# Altium schematic symbol library Relays.SchLib: 16 symbols
Pins are listed as number, name and electrical type; pins without a type are passive.

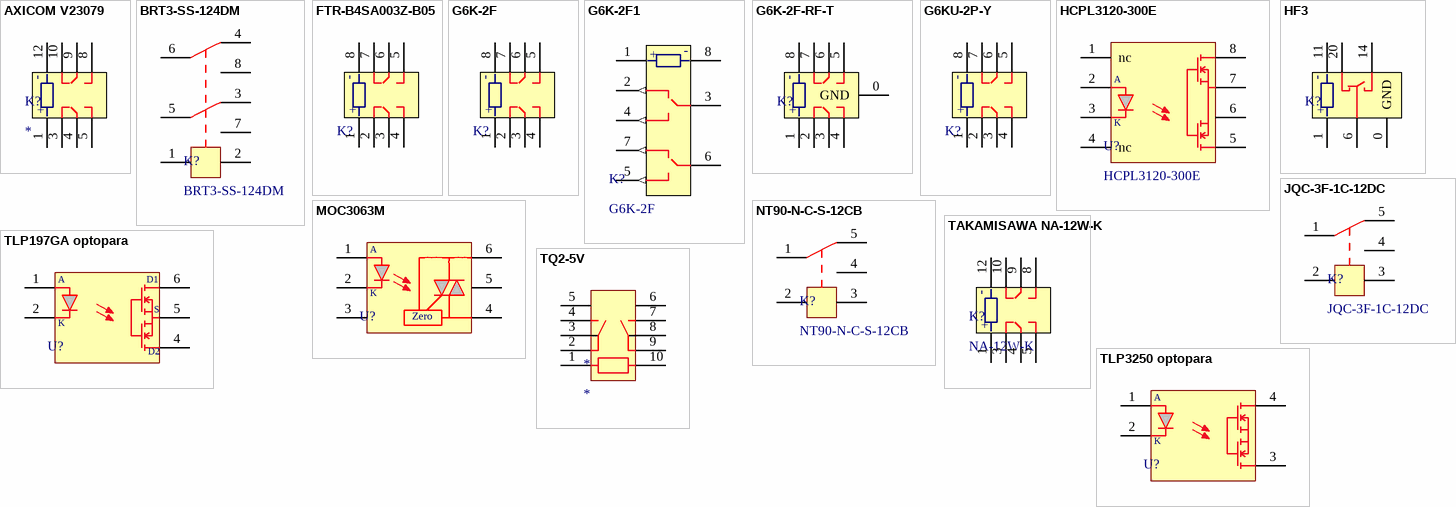
[diagram p0: symbols AXICOM V23079 to TQ2-5V]

## AXICOM V23079
designator K?
Relay
footprint AXICOM V23079
pins: 1 +, 3, 4, 5, 8, 9, 10, 12 -

## BRT3-SS-124DM
designator K?
Relay
footprint BRT3-SS-124DM
pins: 1, 2, 3, 4, 5, 6, 7, 8

## FTR-B4SA003Z-B05
designator K?
Relay; Manufacturer Part Number: FTR-B4SA003Z-B05; Brand: Fujitsu; Power Consumption: 140 mW; Maximum Switching Current: 1 A; Contact Form: DPDT (2 Form C); Coil Voltage: 3 VDC; Category: Low Signal Relays - PCB
footprint FTR-B4SA003Z-B05_relay
pins: 1 +, 2, 3, 4, 5, 6, 7, 8 -

## G6K-2F
designator K?
Relay
footprint G6K-2F (SOJ, 8-Leads, Body 10,0x6,5mm (max), Pitch 2,54mm, IPC Low Density)
pins: 1 +, 2, 3, 4, 5, 6, 7, 8 -

## G6K-2F1
designator K?, comment G6K-2F
Relay: electromagnetic; DPDT; Ucoil:12VDC; 0.3A/125VAC; 1A/30VDC; Manufacturer Part Number: G6K-2F 12VDC; Manufacturer: OMRON; Contacts pitch: 2.54mm; Relay series: G6K; Coil resistance: 1315Ω; Coil power consumption: 100mW; Release time: 3ms; DC contacts rating: 1 A / 30 VDC; AC contacts rating: 0.3 A / 125 VAC; Mounting: SMD; Body dimensions: 10 x 6.5 x 5.2mm; Supplier Part Number: G6K-2F-5DC
footprint G6K-2F (SOJ, 8-Leads, Body 10,0x6,5mm (max), Pitch 2,54mm, IPC Low Density)
pins: 1 +, 2 (out), 3, 4 (out), 5 (out), 6, 7 (out), 8 -

## G6K-2F-RF-T
designator K?
Relay
footprint G6K-2G (SOJ, 8-Leads, Body 10,0x6,5mm (max), Pitch 2,54mm, IPC Low Density)
footprint G6K-2F-RF-T
pins: 0 GND, 1 +, 2, 3, 4, 5, 6, 7, 8 -

## G6KU-2P-Y
designator K?
Relay; Manufacturer Part Number: G6KU-2P-Y-DC5; Manufacturer: Omron; Coil Voltage (DC): 5V; Coil Current: 21.1mA; Contact Current Rating: 1A; Coil Power: 100mW; Max Voltage Rating (DC): 60V; Max Voltage Rating (AC): 125V; Case/Package: DIP; Max Current Rating: 1A; Contact Material: Gold,Silver; Max Operating Temperature: 70°C
pins: 1 +, 2, 3, 4, 5, 6, 7, 8 -

## HCPL3120-300E
designator U?
Logic Output Optocouplers 2.0A IGBT Gate Drive; Number of Channels per Chip: 1 Channel; Minimum Forward Diode Voltage: 1.2 V; Maximum Reverse Diode Voltage: 5 V; Maximum Propagation Delay Time: 500 ns; Maximum Power Dissipation: 295 mW; Maximum Forward Diode Voltage: 1.8 V; Maximum Forward Diode Current: 16 mA; Brand: Avago Technologies; Output Type: Open Collector; Isolation Voltage: 3750 Vrms; Minimum Operating Temperature: - 40 C; Package / Case: DIP-8 Gull Wing; ComponentLink2Description: Datasheet; ComponentLink2URL: http://www.farnell.com/datasheets/55860.pdf; Name: HCPL3120-300E
footprint HCPL3120-300E
pins: 1 nc, 2 A, 3 K, 4 nc, 5 D2, 6 S, 7 S, 8 D1

## HF3
designator K?
RF Signal Relay AXICOM
footprint HF3
pins: 0 GND, 1 +, 6, 11 -, 14, 20

## JQC-3F-1C-12DC
designator K?
Relay
footprint JQC-3F-1C-12DC
pins: 1, 2, 3, 4, 5

## MOC3063M
designator U?, comment MOC3063M-ND  (value not drawn)
OPTOISOLATOR 7.5KV TRIAC 6DIP; Manufacturer: Fairchild Semiconductor; Current - DC Forward (If) (Max): 60mA; Voltage - Off State: 600V; Static dV/dt (Min): 600V/µs; Current - LED Trigger (Ift) (Max): 5mA; Current - Hold (Ih): 500µA (Typ); ComponentLink2URL: file:///C:/Users/Alex/Desktop/%D0%9D%D0%BE%D0%B2%D0%B0%D1%8F%20%D0%BF%D0%B0%D0%BF%D0%BA%D0%B0/TLP197GA_datasheet_en_20140901.pdf; ComponentLink2Description: Datasheet; Package / Case: 6-DIP (0.300", 7.62mm); Manufacturer Part Number: MOC3063M; Supplier Device Package: 6-DIP; Supplier Part Number: MOC3063M-ND
footprint Dip6
footprint SOP6 (SOP, 6-Leads, Body 6,3x4,4mm (max), Pitch 2,54mm, IPC Medium Density)
pins: 1 A, 2 K, 3 NC, 4 MT, 5 NC, 6 MT
text: Zero

## NT90-N-C-S-12CB
designator K?
Relay
footprint NT90-N-C-S-12CB
pins: 1, 2, 3, 4, 5

## TAKAMISAWA NA-12W-K
designator K?, comment NA-12W-K
Electromechanical Relay 12VDC 1.028KOhm 2A DPDT (14.9x7.4x9.7)mm THT Signal Relay; Manufacturer: Fujitsu; Voltage Rating (AC): 250V; Coil Current: 11.67mA; Coil Resistance: 1.028kR; Voltage Rating (DC): 220V; Power Consumption: 140mW; Operate Time: 6ms; Coil Voltage (DC): 12V; Length: 14.9mm; Contact Current Rating: 2A; Contact Material: Gold,Silver; Max Operating Temperature: 85°C; Case/Package: DIP; Height: 9.7mm; Manufacturer Part Number: NA-12W-K; Min Operating Temperature: -40°C; Package Quantity: 50; Depth: 7.4mm; Number of Pins: 8; Coil Power: 140mW
footprint NA-12W-K
pins: 1 +, 3, 4, 5, 8, 9, 10, 12 -

## TLP197GA optopara
designator U?, comment TLP197GA  (value not drawn)
PHOTORELAY MOSFET 400V 6SOP; Manufacturer: Toshiba Semiconductor and Storage; Manufacturer Part Number: TLP197GA(TP,F); Voltage - Load: 0 ~ 400 V; Voltage - Input: 1.15VDC; On-State Resistance: 35 Ohm; Load Current: 120mA; Category: Relays; Supplier Device Package: 6-SOP (2.54mm); Name: TLP197GA; ComponentLink2URL: file:///C:/Users/Alex/Desktop/%D0%9D%D0%BE%D0%B2%D0%B0%D1%8F%20%D0%BF%D0%B0%D0%BF%D0%BA%D0%B0/TLP197GA_datasheet_en_20140901.pdf; ComponentLink2Description: Datasheet
footprint SOP6 (SOP, 6-Leads, Body 6,3x4,4mm (max), Pitch 2,54mm, IPC Medium Density)
pins: 1 A, 2 K, 4 D1, 5 D2, 6 D3
text: S

## TLP3250 optopara
designator U?, comment TLP3250  (value not drawn)
PHOTORELAY MOSFET 400V 6SOP; Manufacturer Part Number: TLP3250(TP15,F); Manufacturer: Toshiba Semiconductor and Storage; On-State Resistance: 5 Ohm; Load Current: 200mA; Voltage - Load: 0 ~ 20 V; Voltage - Input: 1.3VDC; Name: TLP3250; Category: Relays; Supplier Device Package: 4-SSOP; Package / Case: 4-SMD (0.165", 4.20mm); ComponentLink2URL: file:///C:/Users/Alex/Desktop/%D0%9D%D0%BE%D0%B2%D0%B0%D1%8F%20%D0%BF%D0%B0%D0%BF%D0%BA%D0%B0/TLP3250_datasheet_en_20140901.pdf; ComponentLink2Description: Datasheet
pins: 1 A, 2 K, 3 D1, 4 D3

## TQ2-5V
designator *
footprint TQ2-5V
pins: 1 0, 2 1, 3 2, 4 3, 5 4, 6 5, 7 6, 8 7, 9 8, 10 9